# Altium schematic symbol library 1755752.SchLib: 1 symbol
Pins are listed as number, name and electrical type; pins without a type are passive.

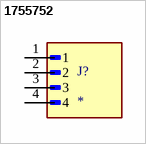
[diagram p0: symbol 1755752]

## 1755752
designator J?
MP: 1755752; Package: None; Price: None; Value: *; Availability: Unavailable
footprint PHOENIX_1755752
pins: 1, 2, 3, 4